# Altium footprint library Connectors.PcbLib: 4 footprints
Each footprint in its own frame and in the unit in brackets; x right, y up, seen from the top. Pads: shape width x height; smd on the part's side, far side on the other; paste and mask are expansions set on the pad; w line width, h text height; cw(c..) or ccw(c..) is an arc to the next point about the centre after c.
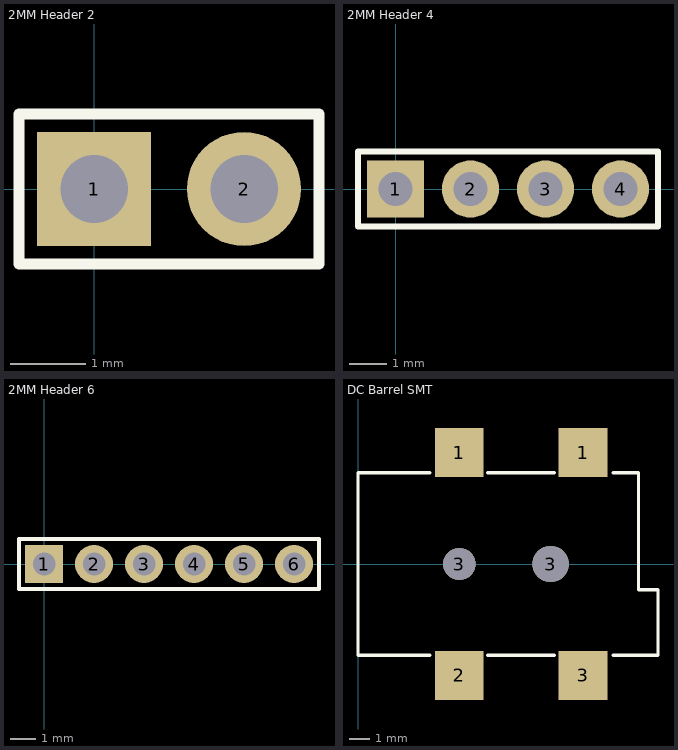
[diagram p0: the footprints below, top view; thin cyan lines are the x and y axes]

## 2MM Header 2 [mil] "2MM 2PIN"
pads (2):
  rect 60x60 hole 35.43: 1(0,0)
  round 60 hole 35.43: 2(78.74,0)
Top Overlay:
  lines w6: -39.37,-39.37 118.11,-39.37 118.11,39.37 -39.37,39.37 -39.37,-39.37

## 2MM Header 4 [mil] "2MM 4PIN"
pads (4):
  rect 60x60 hole 35.43: 1(0,0)
  round 60 hole 35.43: 2(78.74,0) 3(157.48,0) 4(236.22,0)
Top Overlay:
  lines w6: -39.37,-39.37 275.59,-39.37 275.59,39.37 -39.37,39.37 -39.37,-39.37

## 2MM Header 6 [mil] "2MM 6PIN"
pads (6):
  rect 60x60 hole 35.43: 1(0,0)
  round 60 hole 35.43: 2(78.74,0) 3(157.48,0) 4(236.22,0) 5(314.96,0) 6(393.7,0)
Top Overlay:
  lines w6: -39.37,-39.37 433.07,-39.37 433.07,39.37 -39.37,39.37 -39.37,-39.37

## DC Barrel SMT [mm] "SMT 2.1mm/2.5mm Barrel SMT Connector (CUI PJ-002BH-SMT)"
height 11
pads (6):
  rect 2.4x2.4 smd: 1(5,5.5) 1(11.1,5.5) 2(5,-5.5) 3(11.1,-5.5)
  round 1.6 hole 1.6 unplated paste+0: 3(5,0)
  round 1.8 hole 1.8 unplated: 3(9.5,0)
Top Overlay:
  lines w0.152: 3.556,-4.5 0,-4.5 0,4.5 3.556,4.5 ; 6.4,-4.5 9.7,-4.5 ; 6.4,4.5 9.7,4.5 ; 12.573,-4.5 14.8,-4.5 14.8,-1.27 13.843,-1.27 13.843,4.5 12.573,4.5
3D body: height 11.2, standoff -1, extent -0.025,-6.325 14.775,6.275